# Altium footprint library POWERFLAT5X6.PcbLib: 1 footprints
Each footprint in its own frame and in the unit in brackets; x right, y up, seen from the top. Pads: shape width x height; smd on the part's side, far side on the other; paste and mask are expansions set on the pad; w line width, h text height; cw(c..) or ccw(c..) is an arc to the next point about the centre after c.
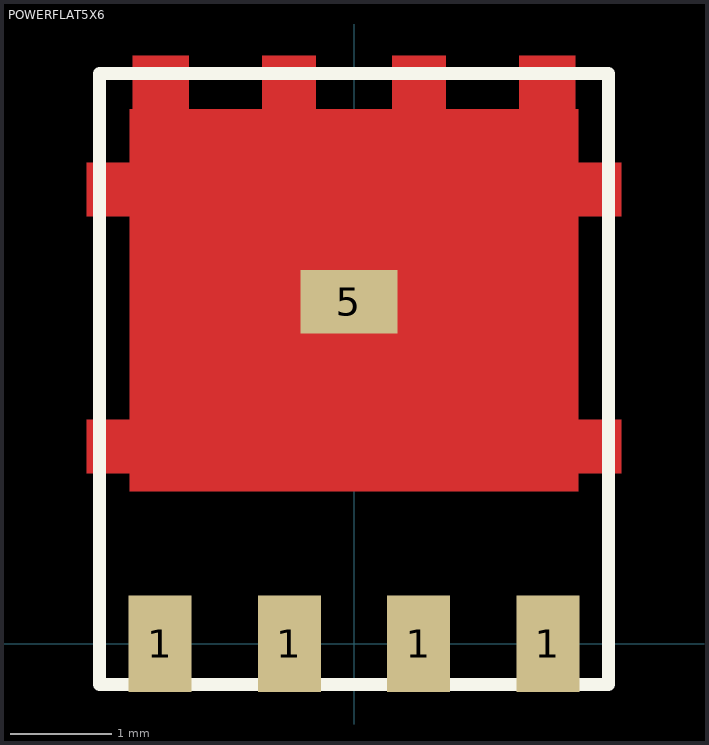
[diagram p0: the footprint, top view; thin cyan lines are the x and y axes]

## POWERFLAT5X6 [mm]
pads (5):
  rect 0.62x0.95 smd: 1(-1.905,0) 1(-0.635,0) 1(0.635,0) 1(1.905,0)
  rect 0.95x0.62 smd: 5(-0.05,3.36)
Signal:
  region: 2.175,5.25 2.2,5.25 2.2,4.725 2.625,4.725 2.625,4.2 2.2,4.2 2.2,2.2 2.625,2.2 2.625,1.675 2.2,1.675 2.2,1.5 -2.2,1.5 -2.2,1.675 -2.625,1.675 -2.625,2.2 -2.2,2.2 -2.2,4.2 -2.625,4.2 -2.625,4.725 -2.2,4.725 -2.2,5.25 -2.175,5.25 -2.175,5.775 -1.625,5.775 -1.625,5.25 -0.9,5.25 -0.9,5.775 -0.375,5.775 -0.375,5.25 0.375,5.25 0.375,5.775 0.9,5.775 0.9,5.25 1.625,5.25 1.625,5.775 2.175,5.775
Top Overlay:
  lines w0.127: -2.5,-0.4 -2.5,5.6 2.5,5.6 2.5,-0.4 -2.5,-0.4
Top Paste:
  region: 2.175,5.25 2.2,5.25 2.2,4.725 2.625,4.725 2.625,4.2 2.2,4.2 2.2,2.2 2.625,2.2 2.625,1.675 2.2,1.675 2.2,1.5 -2.2,1.5 -2.2,1.675 -2.625,1.675 -2.625,2.2 -2.2,2.2 -2.2,4.2 -2.625,4.2 -2.625,4.725 -2.2,4.725 -2.2,5.25 -2.175,5.25 -2.175,5.775 -1.625,5.775 -1.625,5.25 -0.9,5.25 -0.9,5.775 -0.375,5.775 -0.375,5.25 0.375,5.25 0.375,5.775 0.9,5.775 0.9,5.25 1.625,5.25 1.625,5.775 2.175,5.775
Top Solder:
  region: 2.175,5.25 2.2,5.25 2.2,4.725 2.625,4.725 2.625,4.2 2.2,4.2 2.2,2.2 2.625,2.2 2.625,1.675 2.2,1.675 2.2,1.5 -2.2,1.5 -2.2,1.675 -2.625,1.675 -2.625,2.2 -2.2,2.2 -2.2,4.2 -2.625,4.2 -2.625,4.725 -2.2,4.725 -2.2,5.25 -2.175,5.25 -2.175,5.775 -1.625,5.775 -1.625,5.25 -0.9,5.25 -0.9,5.775 -0.375,5.775 -0.375,5.25 0.375,5.25 0.375,5.775 0.9,5.775 0.9,5.25 1.625,5.25 1.625,5.775 2.175,5.775
3D body "step_temp.STEP": height 1, standoff 0, extent -2.6,-0.635 2.6,5.515